# Altium integrated library LQW15AN47NJ00D.IntLib: 1 symbol
Pins are listed as number, name and electrical type; pins without a type are passive.

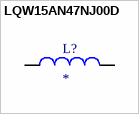
[diagram p0: symbol LQW15AN47NJ00D]

## LQW15AN47NJ00D
designator L?
LQW15 Series 0402 47 nH Â±5 % 210 mA 1.08 Ohm SMT Unshielded Wirewound Inductor; MP: LQW15AN47NJ00D; Package: None; Price: None; Value: *; Availability: Unavailable
footprint INDC1005X60N
pins: 1, 2